# EAGLE library part 74HC595D_SOP16 (library 74-series-ajouts)
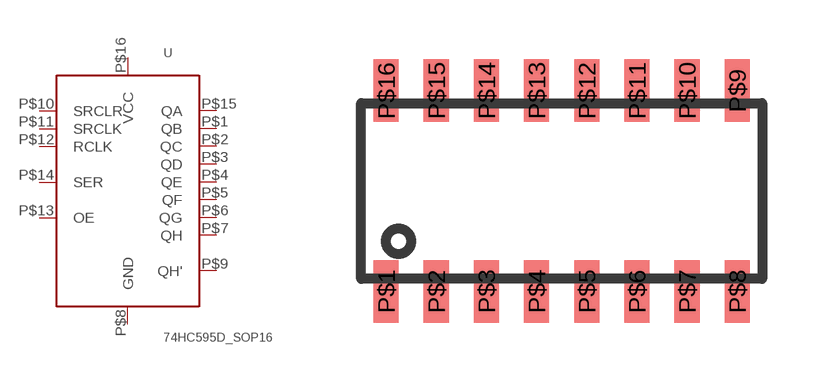
[diagram p0: symbol with the pads of SOP-16; footprint SOP-16]

Designator prefix -

## 74HC595D_SOP16  [SOP-16]
P$1  QB  out
P$2  QC  out
P$3  QD  out
P$4  QE  out
P$5  QF  out
P$6  QG  out
P$7  QH  out
P$8  GND  pwr
P$9  QH'  out
P$10  SRCLR  in
P$11  SRCLK  in
P$12  RCLK  in
P$13  OE  in
P$14  SER  in
P$15  QA  out
P$16  VCC  pwr

## Footprint SOP-16 (pad centres in mm)
smd 0.635 x 1.587: P$1 0,-5.08; P$2 1.27,-5.08; P$3 2.54,-5.08; P$4 3.81,-5.08; P$5 5.08,-5.08; P$6 6.35,-5.08; P$7 7.62,-5.08; P$8 8.89,-5.08; P$9 8.89,0; P$10 7.62,0; P$11 6.35,0; P$12 5.08,0; P$13 3.81,0; P$14 2.54,0; P$15 1.27,0; P$16 0,0